# EAGLE library part 112J-TDAR-R01 (library 112J-TDAR-R01)
Connector: for cards; SD Micro; push-push; SMT; gold-plated Source: Datasheet <https://cdn.sos.sk/productdata/2c/8b/de324bd3/112j-tdar-r01.pdf>
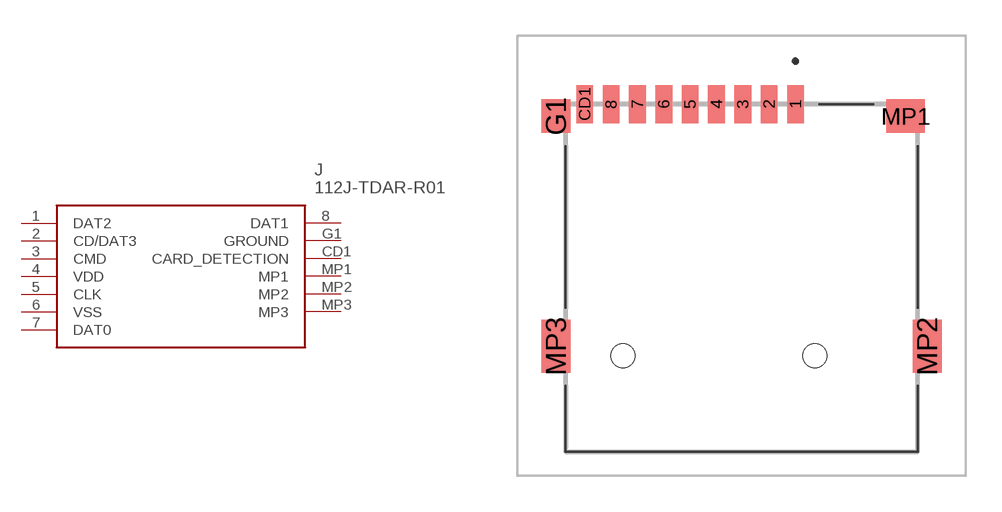
[diagram p0: symbol with the pads of 112JTDARR01; footprint 112JTDARR01]

Designator prefix J

## 112J-TDAR-R01 (Description: Connector: for cards; SD Micro; push-push; SMT; gold-plated; Height: 2mm; Manufacturer_Name: ATTEND; Manufacturer_Part_Number: 112J-TDAR-R01)  [112JTDARR01]
1  DAT2
2  CD/DAT3
3  CMD
4  VDD
5  CLK
6  VSS
7  DAT0
8  DAT1
CD1  CARD_DETECTION
G1  GROUND
MP1  MP1
MP2  MP2
MP3  MP3

## Footprint 112JTDARR01 (pad centres in mm)
112J-TDAR-R01-2
smd 0.7 x 1.6: 1 2.25,7.25; 2 1.15,7.25; 3 0.05,7.25; 4 -1.05,7.25; 5 -2.15,7.25; 6 -3.25,7.25; 7 -4.35,7.25; 8 -5.45,7.25; CD1 -6.55,7.25
smd 1.2 x 1.4: G1 -7.75,6.75
smd 1.6 x 1.4: MP1 6.85,6.75
smd 1.2 x 2.2: MP2 7.75,-2.85; MP3 -7.75,-2.85
hole 1 at 3.05,-3.25
hole 1 at -4.95,-3.25